# Altium footprint library Components - 23.02.21 - 19.45.PcbLib: 4 footprints
Each footprint in its own frame and in the unit in brackets; x right, y up, seen from the top. Pads: shape width x height; smd on the part's side, far side on the other; paste and mask are expansions set on the pad; w line width, h text height; cw(c..) or ccw(c..) is an arc to the next point about the centre after c.
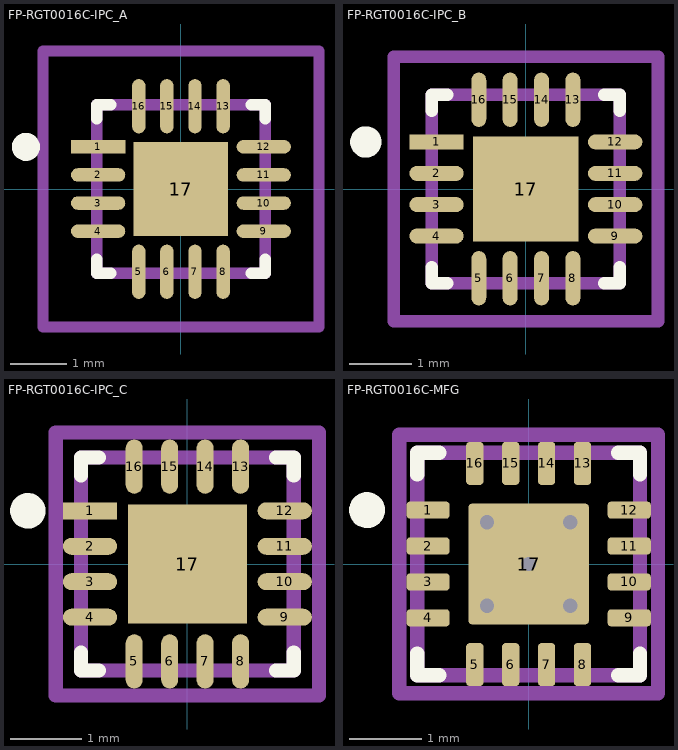
[diagram p0: the footprints below, top view; thin cyan lines are the x and y axes]

## FP-RGT0016C-IPC_A [mm]
pads (17):
  rect 0.966x0.239 smd paste+0 mask+0: 1(-1.473,0.75)
  rrect100% 0.966x0.239 smd paste+0 mask+0: 2(-1.473,0.25) 3(-1.473,-0.25) 4(-1.473,-0.75) 9(1.473,-0.75) 10(1.473,-0.25) 11(1.473,0.25) 12(1.473,0.75)
  rrect100% 0.239x0.966 smd paste+0 mask+0: 5(-0.75,-1.473) 6(-0.25,-1.473) 7(0.25,-1.473) 8(0.75,-1.473) 13(0.75,1.473) 14(0.25,1.473) 15(-0.25,1.473) 16(-0.75,1.473)
  rect 1.68x1.68 smd paste-1000 mask+0: 17(0,0)
Top Overlay:
  circle w0.25: c-2.756,0.75 r0.125
  lines w0.2: -1.5,-1.25 -1.5,-1.5 -1.25,-1.5 ; -1.5,1.25 -1.5,1.5 -1.25,1.5 ; 1.25,-1.5 1.5,-1.5 1.5,-1.25 ; 1.25,1.5 1.5,1.5 1.5,1.25
Top Paste:
  rectangle: -0.531,-0.531 0.531,0.531
Mechanical 5:
  lines w0.2: -2.456,-2.456 2.456,-2.456 2.456,2.456 -2.456,2.456 -2.456,-2.456
  text ".Designator" at 0,0.188 h1
Mechanical 13:
  lines w0.2: -1.5,-1.5 1.5,-1.5 1.5,1.5 -1.5,1.5 -1.5,-1.5
Mechanical 15:
  lines w0.2: -2.456,-2.456 2.456,-2.456 2.456,2.456 -2.456,2.456 -2.456,-2.456
Mechanical 16:
  lines w0.1: -0.5,0 0.5,0 ; 0,-0.5 0,0.5
3D body "IC_Texas_Instruments_DRV8876RGTR_eec.STEP": height 0.25, standoff 0, extent -2.456,-2.456 2.456,2.456

## FP-RGT0016C-IPC_B [mm]
pads (17):
  rect 0.866x0.239 smd paste+0 mask+0: 1(-1.423,0.75)
  rrect100% 0.866x0.239 smd paste+0 mask+0: 2(-1.423,0.25) 3(-1.423,-0.25) 4(-1.423,-0.75) 9(1.423,-0.75) 10(1.423,-0.25) 11(1.423,0.25) 12(1.423,0.75)
  rrect100% 0.239x0.866 smd paste+0 mask+0: 5(-0.75,-1.423) 6(-0.25,-1.423) 7(0.25,-1.423) 8(0.75,-1.423) 13(0.75,1.423) 14(0.25,1.423) 15(-0.25,1.423) 16(-0.75,1.423)
  rect 1.68x1.68 smd paste-1000 mask+0: 17(0,0)
Top Overlay:
  circle w0.25: c-2.55,0.75 r0.125
  lines w0.2: -1.5,-1.25 -1.5,-1.5 -1.25,-1.5 ; -1.5,1.25 -1.5,1.5 -1.25,1.5 ; 1.25,-1.5 1.5,-1.5 1.5,-1.25 ; 1.25,1.5 1.5,1.5 1.5,1.25
Top Paste:
  rectangle: -0.531,-0.531 0.531,0.531
Mechanical 5:
  lines w0.2: -2.106,-2.106 2.106,-2.106 2.106,2.106 -2.106,2.106 -2.106,-2.106
  text ".Designator" at 0,0.188 h1
Mechanical 13:
  lines w0.2: -1.5,-1.5 1.5,-1.5 1.5,1.5 -1.5,1.5 -1.5,-1.5
Mechanical 15:
  lines w0.2: -2.106,-2.106 2.106,-2.106 2.106,2.106 -2.106,2.106 -2.106,-2.106
Mechanical 16:
  lines w0.1: -0.5,0 0.5,0 ; 0,-0.5 0,0.5
3D body "IC_Texas_Instruments_DRV8876RGTR_eec.STEP": height 0.25, standoff 0, extent -2.106,-2.106 2.106,2.106

## FP-RGT0016C-IPC_C [mm]
pads (17):
  rect 0.766x0.239 smd paste+0 mask+0: 1(-1.373,0.75)
  rrect100% 0.766x0.239 smd paste+0 mask+0: 2(-1.373,0.25) 3(-1.373,-0.25) 4(-1.373,-0.75) 9(1.373,-0.75) 10(1.373,-0.25) 11(1.373,0.25) 12(1.373,0.75)
  rrect100% 0.239x0.766 smd paste+0 mask+0: 5(-0.75,-1.373) 6(-0.25,-1.373) 7(0.25,-1.373) 8(0.75,-1.373) 13(0.75,1.373) 14(0.25,1.373) 15(-0.25,1.373) 16(-0.75,1.373)
  rect 1.68x1.68 smd paste-1000 mask+0: 17(0,0)
Top Overlay:
  circle w0.25: c-2.25,0.75 r0.125
  lines w0.2: -1.5,-1.25 -1.5,-1.5 -1.25,-1.5 ; -1.5,1.25 -1.5,1.5 -1.25,1.5 ; 1.25,-1.5 1.5,-1.5 1.5,-1.25 ; 1.25,1.5 1.5,1.5 1.5,1.25
Top Paste:
  rectangle: -0.531,-0.531 0.531,0.531
Mechanical 5:
  lines w0.2: -1.856,-1.856 1.856,-1.856 1.856,1.856 -1.856,1.856 -1.856,-1.856
  text ".Designator" at 0,0.188 h1
Mechanical 13:
  lines w0.2: -1.5,-1.5 1.5,-1.5 1.5,1.5 -1.5,1.5 -1.5,-1.5
Mechanical 15:
  lines w0.2: -1.856,-1.856 1.856,-1.856 1.856,1.856 -1.856,1.856 -1.856,-1.856
Mechanical 16:
  lines w0.1: -0.5,0 0.5,0 ; 0,-0.5 0,0.5
3D body "IC_Texas_Instruments_DRV8876RGTR_eec.STEP": height 0.25, standoff 0, extent -1.856,-1.856 1.856,1.856

## FP-RGT0016C-MFG [mm]
pads (17):
  rrect42% 0.6x0.24 smd paste+0 mask+0: 1(-1.4,0.75) 2(-1.4,0.25) 3(-1.4,-0.25) 4(-1.4,-0.75) 9(1.4,-0.75) 10(1.4,-0.25) 11(1.4,0.25) 12(1.4,0.75)
  rrect42% 0.24x0.6 smd paste+0 mask+0: 5(-0.75,-1.4) 6(-0.25,-1.4) 7(0.25,-1.4) 8(0.75,-1.4) 13(0.75,1.4) 14(0.25,1.4) 15(-0.25,1.4) 16(-0.75,1.4)
  rrect6% 1.68x1.68 smd paste-1000 mask+0: 17(0,0)
via 0,0 diameter 0.5 hole 0.2
via -0.58,-0.58 diameter 0.5 hole 0.2
via 0.58,-0.58 diameter 0.5 hole 0.2
via -0.58,0.58 diameter 0.5 hole 0.2
via 0.58,0.58 diameter 0.5 hole 0.2
Top Overlay:
  circle w0.25: c-2.25,0.75 r0.125
  lines w0.2: -1.55,-1.245 -1.55,-1.55 -1.245,-1.55 ; -1.55,1.245 -1.55,1.55 -1.245,1.55 ; 1.245,-1.55 1.55,-1.55 1.55,-1.245 ; 1.245,1.55 1.55,1.55 1.55,1.245
Top Paste:
  region: 0.775,0.725 0.775,-0.725 0.775,-0.735 0.767,-0.753 0.753,-0.767 0.735,-0.775 0.725,-0.775 -0.725,-0.775 -0.735,-0.775 -0.753,-0.767 -0.767,-0.753 -0.775,-0.735 -0.775,-0.725 -0.775,0.725 -0.775,0.735 -0.767,0.753 -0.753,0.767 -0.735,0.775 -0.725,0.775 0.725,0.775 0.735,0.775 0.753,0.767 0.767,0.753 0.775,0.735
Mechanical 5:
  lines w0.2: -1.8,-1.8 1.8,-1.8 1.8,1.8 -1.8,1.8 -1.8,-1.8
  text ".Designator" at 0,0.188 h1
Mechanical 13:
  lines w0.2: -1.55,-1.55 1.55,-1.55 1.55,1.55 -1.55,1.55 -1.55,-1.55
Mechanical 15:
  lines w0.2: -1.8,-1.8 1.8,-1.8 1.8,1.8 -1.8,1.8 -1.8,-1.8
Mechanical 16:
  lines w0.1: -0.5,0 0.5,0 ; 0,-0.5 0,0.5
3D body "IC_Texas_Instruments_DRV8876RGTR_eec.STEP": height 0.25, standoff 0, extent -1.8,-1.8 1.8,1.8